# Altium footprint library PX4FMUv2.4.6.PcbLib: 53 footprints (part 3 of 4)
Each footprint in its own frame and in the unit in brackets; x right, y up, seen from the top. Pads: shape width x height; smd on the part's side, far side on the other; paste and mask are expansions set on the pad; w line width, h text height; cw(c..) or ccw(c..) is an arc to the next point about the centre after c.
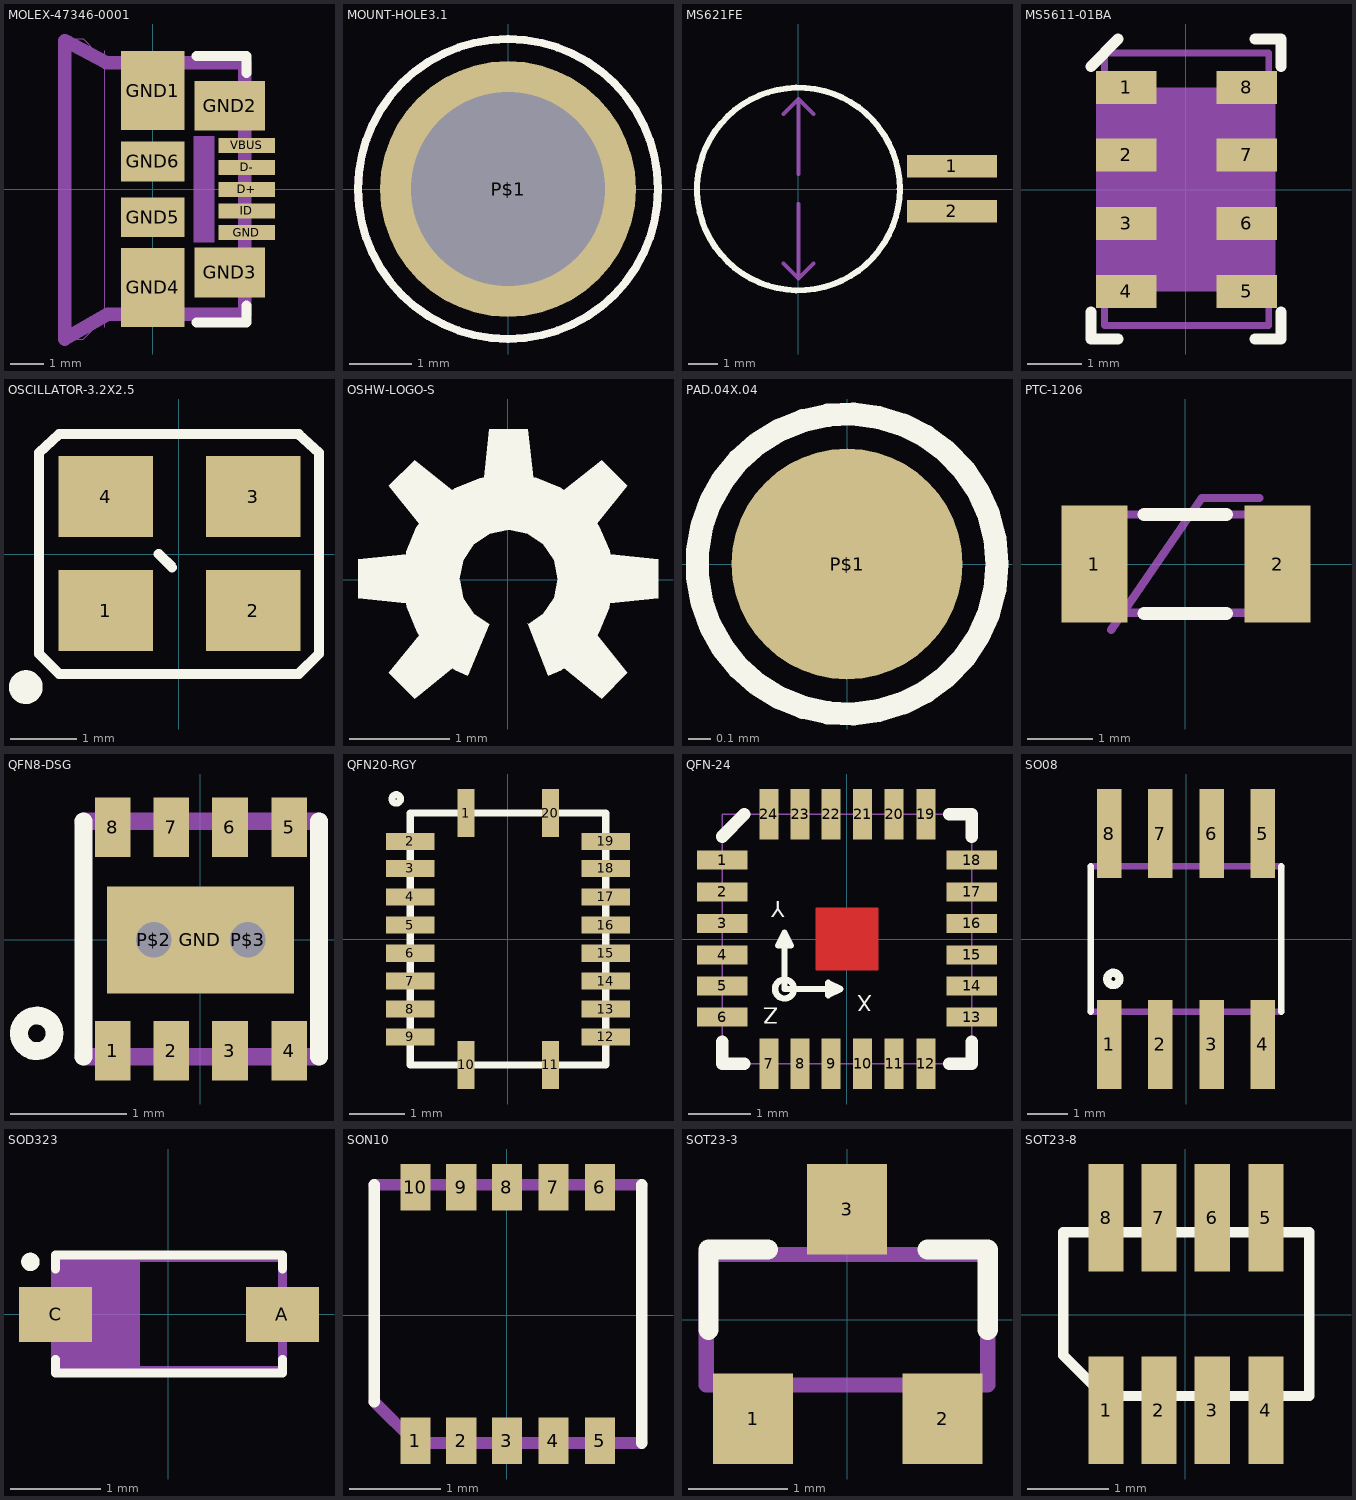
[diagram p2: the footprints below, top view; thin cyan lines are the x and y axes]

## MOLEX-47346-0001 [mil] "MOLEX-47346-0001"
pads (11):
  rect 67x18 smd: D+(111,0) D-(111,26) GND(111,-51.18) ID(111,-25.59) VBUS(111,52)
  rect 75x94 smd: GND1(0,117) GND4(0,-116.14)
  rect 83x59 smd: GND2(91,99) GND3(91,-98.43)
  rect 75x47 smd: GND5(0,-32.97) GND6(0,33)
Top Overlay:
  lines w12: 52,-157.48 111,-157.48 111,-137.8 ; 52,158 111,158 111,138
Mechanical 8:
  rectangle: 48,-62.99 73,63
Mechanical 16:
  lines w0: -57.09,-163.39 -57.09,164
  lines w1: -106.3,-177.17 -82.68,-177.17 -55.12,-149.61 107,-149.61 111,-145.67 111,146 107,150 -55.12,150 -82.68,178 -106.3,178 -106.3,-177.17
  lines w16: -104.33,-177.17 -53.15,-147.64 109,-147.64 109,150 -55.12,150 -104.33,176 -104.33,-177.17

## MOUNT-HOLE3.1 [mil] "MOUNT-HOLE3.1"
pads (1):
  round 162 hole 123: P$1(0,0)
Top Overlay:
  circle w5: c0,0 r95
Bottom Overlay:
  circle w5: c0,0 r95
Mechanical 16:
  circle w5: c0,0 r95

## MS621FE [mil] "MS621FE"
pads (2):
  rect 119x30 smd: 1(203,30) 2(203,-29.53)
Top Overlay:
  circle w8: c0,0 r134
Mechanical 16:
  region: 256,20 256,40 170,40 170,20
  region: 256,-19.68 170,-19.68 170,-39.37 256,-39.37
  lines w5: -19.68,-98.43 0,-118.11 ; -19.68,99 0,119 ; 0,-19.68 0,-118.11 ; 0,20 0,119 ; 20,-98.43 0,-118.11 ; 20,99 0,119
  text "6.8MM" at -47.24,-11.81 h37.2

## MS5611-01BA [mil] "MS5611-01BA"
pads (8):
  rect 44x24 smd: 1(-43.31,74) 2(-43.31,25) 3(-43.31,-24.61) 4(-43.31,-73.82) 5(44,-73.82) 6(44,-24.61) 7(44,25) 8(44,74)
Top Overlay:
  lines w8: -68.9,-88.58 -68.9,-108.27 -49.21,-108.27 ; -68.9,89 -49.21,109 ; 50,-108.27 69,-108.27 69,-88.58 ; 50,109 69,109 69,89
Mechanical 16:
  rectangle: -64.96,-73.82 65,74
  lines w1: -59.06,-98.43 60,-98.43 60,99 -59.06,99 -59.06,-98.43
  lines w5: -59.06,-98.43 60,-98.43 60,99 -59.06,99 -59.06,-98.43

## OSCILLATOR-3.2X2.5 [mil] "OSCILLATOR-3.2X2.5"
pads (4):
  rect 56x48 smd: 1(-43.31,-33.46) 2(44,-33.46) 3(44,34) 4(-43.31,34)
Top Overlay:
  circle w12: c-90.55,-78.74 r4
  lines w6: -11.81,0 -3.94,-7.87 ; -82.68,-59.06 -70.87,-70.87 71,-70.87 83,-59.06 83,60 71,71 -70.87,71 -82.68,60 -82.68,-59.06
Mechanical 16:
  lines w1: -82.68,-59.06 -70.87,-70.87 71,-70.87 83,-59.06 83,60 71,71 -70.87,71 -82.68,60 -82.68,-59.06

## OSHW-LOGO-S [mil] "OSHW-LOGO-S"
Top Overlay:
  region: 16,-37.51 21.01,-35.44 22.1,-34.6 22,-34.43 37,-46.54 47,-36.36 35.19,-21.63 35.84,-20.78 39.91,-10.95 40.15,-9.17 40,-9.13 59,-7.2 59,8 40.18,10.04 40.01,11.35 36.05,20.92 35.15,22.09 35,22 47,37 37,47 22.09,35.15 20.92,36.05 11.35,40.01 10.04,40.18 10,40 8,59 -7.2,59 -9.17,40.15 -10.95,39.91 -20.78,35.84 -21.63,35.19 -21.52,35 -36.36,47 -46.54,37 -34.55,22.08 -35.68,20.61 -39.66,11 -39.78,10.05 -39.56,10 -58.61,8 -58.61,-7.2 -39.75,-9.18 -39.56,-10.6 -35.47,-20.47 -34.59,-21.61 -34.43,-21.52 -46.54,-36.36 -36.36,-46.54 -21.61,-34.59 -20.47,-35.47 -15.54,-37.51 -7.2,-17.38 -13.31,-13.31 -17.39,-7.2 -18.82,0 -18.77,-0.01 -18.83,0.31 -17.36,7.69 -13.18,13.95 -6.92,18.14 0.47,19.6 7.85,18.14 14.11,13.95 18.29,7.69 19.76,0.31 18.29,-7.08 14.11,-13.34 8.12,-17.34 8,-17.05

## PAD.04X.04 [mil] "PAD.04X.04"
pads (1):
  rrect100% 40x40 smd: P$1(0,0)
Top Overlay:
  circle w4: c0,0 r26

## PTC-1206 [mil] "PTC-1206"
pads (2):
  rect 40x71 smd: 1(-55.12,0) 2(56,0)
Top Overlay:
  lines w8: -25,-30 25,-30 ; -25,30 25,30
Mechanical 16:
  lines w5: -45,-40 10,40 45,40 ; -59.06,-29.53 -59.06,30 60,30 60,-29.53 -59.06,-29.53

## QFN8-DSG [mil] "QFN8-DSG"
pads (11):
  rect 12x20 smd: 1(-29.53,-37.4) 2(-9.84,-37.4) 3(10,-37.4) 4(30,-37.4) 5(30,38) 6(10,38) 7(-9.84,38) 8(-29.53,38)
  rect 63x36 smd: GND(0,0)
  rect 18x18 hole 12: P$2(-15.75,0) P$3(16,0)
Top Overlay:
  circle w6: c-55.12,-31.5 r6
  lines w6: -39.37,-39.37 -39.37,40 ; 40,-39.37 40,40
Mechanical 16:
  lines w6: -39.37,-39.37 40,-39.37 ; -39.37,40 40,40

## QFN20-RGY [mil] "QFN20-RGY"
pads (20):
  rect 12x34 smd: 1(-29.53,89) 10(-29.53,-88.58) 11(30,-88.58) 20(30,89)
  rect 34x12 smd: 2(-68.9,69) 3(-68.9,50) 4(-68.9,30) 5(-68.9,10) 6(-68.9,-9.84) 7(-68.9,-29.53) 8(-68.9,-49.21) 9(-68.9,-68.9) 12(69,-68.9) 13(69,-49.21) 14(69,-29.53) 15(69,-9.84) 16(69,10) 17(69,30) 18(69,50) 19(69,69)
Top Overlay:
  circle w5: c-78.74,99 r3
  lines w5: -68.9,-88.58 69,-88.58 69,89 -68.9,89 -68.9,-88.58

## QFN-24 [mil] "QFN-24"
pads (24):
  rect 32x12 smd: 1(-78.74,50) 2(-78.74,30) 3(-78.74,10) 4(-78.74,-9.84) 5(-78.74,-29.53) 6(-78.74,-49.21) 13(79,-49.21) 14(79,-29.53) 15(79,-9.84) 16(79,10) 17(79,30) 18(79,50)
  rect 12x32 smd: 7(-49.21,-78.74) 8(-29.53,-78.74) 9(-9.84,-78.74) 10(10,-78.74) 11(30,-78.74) 12(50,-78.74) 19(50,79) 20(30,79) 21(10,79) 22(-9.84,79) 23(-29.53,79) 24(-49.21,79)
Top Layer:
  rectangle: -19.68,-19.68 20,20
Top Overlay:
  circle w4: c-39.37,-31.5 r6
  lines w4: -39.37,4 -39.37,-31.5 -3.94,-31.5 ; -39.37,4 -43.31,-3.94 -35.43,-3.94 -39.37,4 ; -3.94,-31.5 -11.81,-35.43 -11.81,-27.56 -3.94,-31.5
  lines w8: -78.74,-64.96 -78.74,-78.74 -64.96,-78.74 ; -78.74,65 -64.96,79 ; 65,-78.74 79,-78.74 79,-64.96 ; 65,79 79,79 79,65
  text "X" at 16,-35.43 h10.2
  text "Y" at -39.37,24 h10.2
  text "Z" at -43.31,-43.31 h10.2
Top Paste:
  rectangle: -11.81,-11.81 12,12
Top Solder:
  rectangle: -19.68,-19.68 20,20
Mechanical 16:
  lines w1: -78.74,-78.74 -78.74,79 79,79 79,-78.74 -78.74,-78.74

## SO08 [mil] "SO08"
pads (8):
  rect 24x87 smd: 1(-75,-103) 2(-25,-103) 3(25,-103) 4(75,-103) 5(75,103) 6(25,103) 7(-25,103) 8(-75,103)
Top Overlay:
  circle w8: c-71,-39 r6
  lines w6: -92.99,-70.98 -92.99,71 ; 93,-70.98 93,71
Mechanical 16:
  rectangle: -82,-113 -68,-73
  rectangle: -32,-113 -18,-73
  rectangle: 18,-113 32,-73
  rectangle: 68,-113 82,-73
  rectangle: -82,73 -68,113
  rectangle: -32,73 -18,113
  rectangle: 18,73 32,113
  rectangle: 68,73 82,113
  lines w6: -92.99,-70.98 93,-70.98 ; -92.99,71 93,71

## SOD323 [mil] "SOD323"
pads (2):
  rect 32x24 smd: A(50,0) C(-49.21,0)
Top Overlay:
  circle w4: c-60.24,23 r2
  lines w4: -49.21,-19.68 -49.21,-25.59 50,-25.59 50,-19.68 ; -49.21,20 -49.21,26 50,26 50,20
Mechanical 16:
  rectangle: -49.21,-24.61 -12.3,25
  rectangle: -61.02,-7.87 -49.21,8
  rectangle: 52,-7.87 62,8
  lines w4: -49.21,-24.61 50,-24.61 50,25 -49.21,25 -49.21,-24.61

## SON10 [mil] "SON10"
pads (10):
  rect 13x20 smd: 1(-39.37,-54.13) 2(-19.68,-54.13) 3(0,-54.13) 4(20,-54.13) 5(40,-54.13) 6(40,55) 7(20,55) 8(0,55) 9(-19.68,55) 10(-39.37,55)
Top Overlay:
  lines w5: -57.09,-37.4 -57.09,56 ; 58,-55.12 58,56
Mechanical 16:
  lines w5: -57.09,-37.4 -39.37,-55.12 58,-55.12 ; -57.09,56 58,56

## SOT23-3 [mil] "SOT23-3"
pads (3):
  rect 32x36 smd: 1(-37.4,-39.37) 2(38,-39.37) 3(0,44)
Top Overlay:
  lines w8: -55.12,-3.94 -55.12,28 -31.5,28 ; 32,28 56,28 56,-3.94
Mechanical 16:
  lines w6: -56,-26 56,-26 56,26 -56,26 -56,-26

## SOT23-8 [mil] "SOT23-8"
pads (8):
  rect 17x52 smd: 1(-38.39,-46.26) 2(-12.8,-46.26) 3(13,-46.26) 4(39,-46.26) 5(39,47) 6(13,47) 7(-12.8,47) 8(-38.39,47)
Top Overlay:
  lines w5: -59.06,-19.68 -59.06,40 60,40 60,-39.37 -39.37,-39.37 -59.06,-19.68